# EAGLE library part AD9833_MODULE (library mylib2)
AD9833 DDS Module
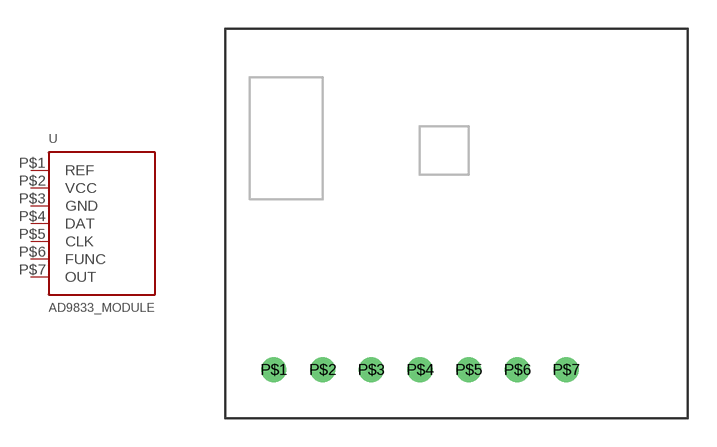
[diagram p17: symbol with the pads of AD9833_MODULE; footprint AD9833_MODULE]

Designator prefix -

## AD9833_MODULE  [AD9833_MODULE]
P$1  REF  nc
P$2  VCC  pwr
P$3  GND  pwr
P$4  DAT  in
P$5  CLK  in
P$6  FUNC  in
P$7  OUT  out

## Footprint AD9833_MODULE (pad centres in mm)
drill 0.8: P$1 -10.16,-2.54; P$2 -7.62,-2.54; P$3 -5.08,-2.54; P$4 -2.54,-2.54; P$5 0,-2.54; P$6 2.54,-2.54; P$7 5.08,-2.54